# Altium footprint library SRD Generator PCB.PcbLib: 9 footprints
Each footprint in its own frame and in the unit in brackets; x right, y up, seen from the top. Pads: shape width x height; smd on the part's side, far side on the other; paste and mask are expansions set on the pad; w line width, h text height; cw(c..) or ccw(c..) is an arc to the next point about the centre after c.
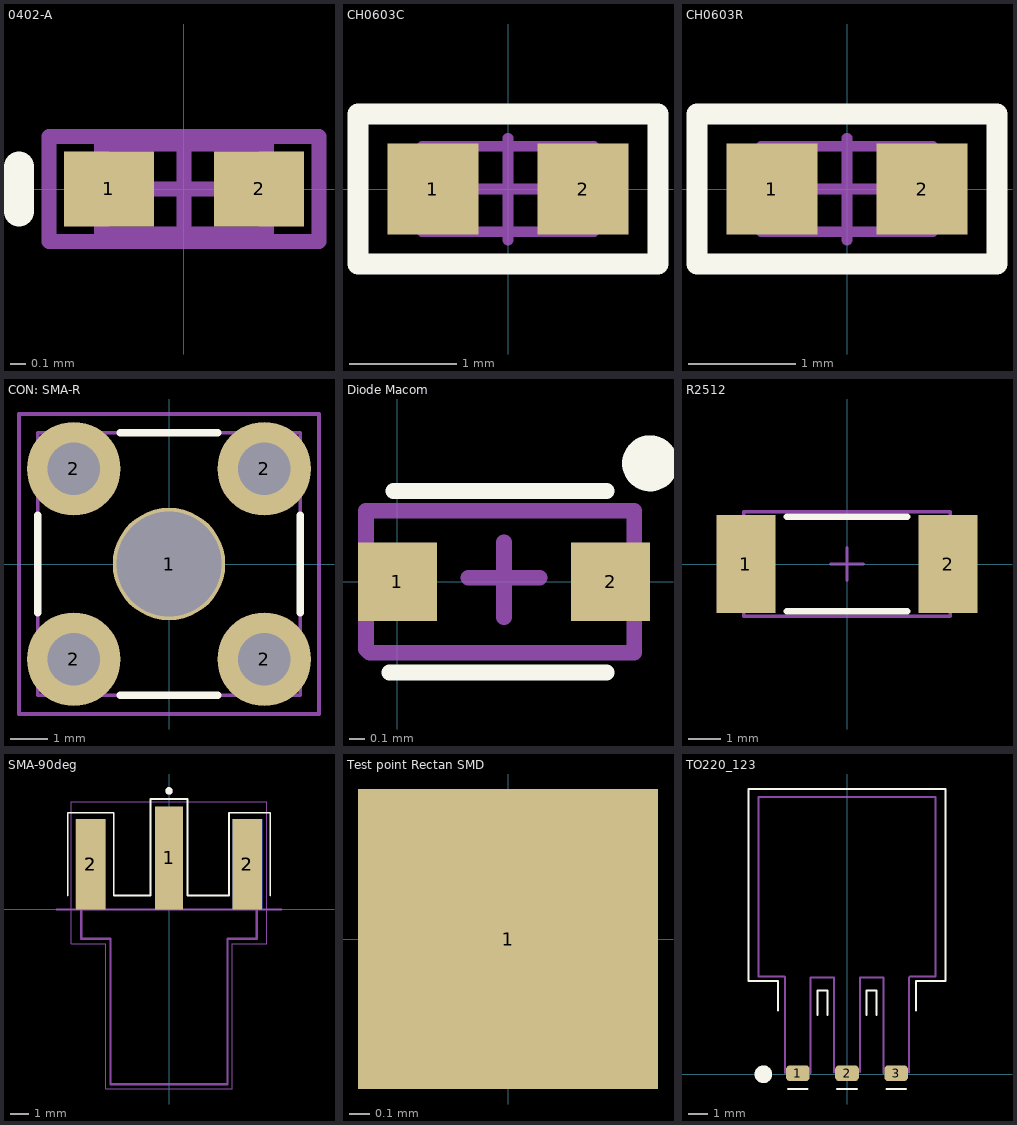
[diagram p0: the footprints below, top view; thin cyan lines are the x and y axes]

## 0402-A [mm] "Chip Inductor, Body 1.0x0.5mm, IPC High Density"
height 0.55
pads (2):
  rect 0.6x0.5 smd: 1(-0.5,0) 2(0.5,0)
Top Overlay:
  lines w0.2: -1.1,-0.15 -1.1,0.15
Mechanical 13:
  lines w0.1: -0.55,-0.3 -0.55,0.3 0.55,0.3 0.55,-0.3 -0.55,-0.3
Mechanical 15:
  lines w0.1: -0.3,0 0.3,0 ; 0,-0.3 0,0.3 ; -0.9,-0.35 -0.9,0.35 0.9,0.35 0.9,-0.35 -0.9,-0.35
3D body: height 0.55, standoff 0, extent -0.55,-0.3 0.55,0.3

## CH0603C [mm] "Chip Capacitor, 2-Leads, Body 1,53x0,85mm, IPC Medium Density"
height 0.45
pads (2):
  rect 0.85x0.85 smd: 1(-0.7,0) 2(0.7,0)
Top Overlay:
  lines w0.2: -1.4,-0.7 -1.4,0.7 1.4,0.7 1.4,-0.7 -1.4,-0.7
Mechanical 1:
  lines w0.1: -0.8,-0.4 -0.8,0.4 0.8,0.4 0.8,-0.4 -0.8,-0.4
Mechanical 15:
  lines w0.1: -0.475,0 0.475,0 ; 0,-0.475 0,0.475 ; -1.4,-0.7 1.4,-0.7 1.4,0.7 -1.4,0.7 -1.4,-0.7
3D body "SW3dPS-0603 SMD Capacitor.STEP": height 0.3, standoff 0, extent -0.8,-0.4 0.8,0.4

## CH0603R [mm]
height 0.45
pads (2):
  rect 0.85x0.85 smd: 1(-0.7,0) 2(0.7,0)
Top Overlay:
  lines w0.2: -1.4,-0.7 -1.4,0.7 1.4,0.7 1.4,-0.7 -1.4,-0.7
Mechanical 1:
  lines w0.1: -0.8,-0.4 -0.8,0.4 0.8,0.4 0.8,-0.4 -0.8,-0.4
Mechanical 15:
  lines w0.1: -0.475,0 0.475,0 ; 0,-0.475 0,0.475 ; -1.4,-0.7 1.4,-0.7 1.4,0.7 -1.4,0.7 -1.4,-0.7
3D body "chip_0603_r.STEP": height 0.44, standoff -0.02, extent -0.8,-0.4 0.8,0.4

## CON: SMA-R [mm]
height 1
pads (5):
  round 3 hole 2.8 paste+0 mask+0.102: 1(0,0)
  round 2.5 hole 1.4: 2(-2.54,-2.54) 2(-2.54,2.54) 2(2.54,-2.54) 2(2.54,2.54)
Top Overlay:
  lines w0.2: -3.5,-1.3 -3.5,1.3 ; -1.3,-3.5 1.3,-3.5 ; -1.3,3.5 1.3,3.5 ; 3.5,-1.3 3.5,1.3
Mechanical 1:
  lines w0.1: -3.5,-3.5 -3.5,3.5 3.5,3.5 3.5,-3.5 -3.5,-3.5
Mechanical 15:
  lines w0.1: -0.5,0 0.5,0 ; 0,-0.5 0,0.5 ; -4,-4 4,-4 4,4 -4,4 -4,-4
3D body "Samtec-SMA-J-P-H-RA-TH1.STEP": height 10.26, standoff -3.84, extent -3.5,-3.5 3.5,11.6

## Diode Macom [mm]
height 22
pads (2):
  rect 0.5x0.5 smd: 1(0,0) 2(1.35,0)
Top Overlay:
  circle w0.254: c1.6,0.75 r0.05
  lines w0.1: -0.05,-0.575 1.325,-0.575 ; -0.025,0.575 1.325,0.575
Mechanical 15:
  lines w0.1: 0.45,0.025 0.9,0.025 ; 0.675,-0.225 0.675,0.25 ; -0.2,-0.425 -0.175,-0.45 1.5,-0.45 1.5,0.45 -0.2,0.45 -0.2,-0.425
3D body "SC79.step": height 0.62, standoff 0, extent -0.188,-0.45 1.513,0.45

## R2512 [mm] "Resistor, 2-Leads, Body 6,40x3,20mm, IPC Medium Density"
height 0.7
pads (2):
  rect 1.8x3 smd mask+0.05: 1(-3.1,0) 2(3.1,0)
Top Overlay:
  lines w0.2: -1.85,-1.45 1.85,-1.45 ; -1.85,1.45 1.85,1.45
Top Assembly:
  lines w0.1: -3.17,-1.6 -3.17,1.6 3.17,1.6 3.17,-1.6 -3.17,-1.6
Mechanical 15:
  lines w0.1: -0.5,0 0.5,0 ; 0,-0.5 0,0.5
3D body "R2512 (6432).step": height 0.57, standoff 0, extent -3.175,-1.602 3.175,1.6

## SMA-90deg [mm]
pads (5):
  rect 1.5x5.6 smd: 1(0,2.8)
  rect 1.6x4.9 smd: 2(-4.26,2.45) 2(4.26,2.45)
  rect 1.6x4.9 smd far side: 2(-4.26,2.45) 2(4.26,2.45)
Top Overlay:
  circle w0.2: c0,6.44 r0.1
  lines w0.1: -5.5,0.75 -5.5,5.25 -3,5.25 -3,0.75 -1,0.75 -1,6 1,6 1,0.75 3.25,0.75 3.25,5.25 5.5,5.25 5.5,0.75
Mechanical 13:
  circle w0.2: c0,6.44 r0.1
  lines w0.05: -5.31,-1.85 -5.31,5.85 5.31,5.85 5.31,-1.85 3.425,-1.85 3.425,-9.75 -3.425,-9.75 -3.425,-1.85 -5.31,-1.85
  lines w0.127: -6.09,0 -4.76,0 ; 6.09,0 4.76,0 ; -4.76,0 -4.76,-1.6 -3.175,-1.6 -3.175,-9.5 3.175,-9.5 3.175,-1.6 4.76,-1.6 4.76,0 ; -4.76,0 -3.76,0 ; -4.76,0 -4.76,4.7 -3.76,4.7 -3.76,0 ; -3.76,0 -0.39,0 ; -0.39,0 0.39,0 ; -0.39,0 -0.39,4.7 0.39,4.7 0.39,0 ; 0.39,0 3.76,0 ; 3.76,0 4.76,0 ; 3.76,0 3.76,4.7 4.76,4.7 4.76,0
Mechanical 15:
  lines w0.05: -5.31,-1.85 -5.31,5.85 5.31,5.85 5.31,-1.85 3.425,-1.85 3.425,-9.75 -3.425,-9.75 -3.425,-1.85 -5.31,-1.85
3D body "step_temp.STEP": height 4.35, standoff -3.57, extent -4.76,-9.5 4.76,4.7

## Test point Rectan SMD [mm]
height 2.01
pads (1):
  rect 1.5x1.5 smd: 1(0,0)

## TO220_123 [mm] "Generic TO-220 case, stay variant"
height 22
pads (3):
  rrect50% 1.2x0.8 smd: 1(-2.5,0.05) 2(0,0.05) 3(2.5,0.05)
Top Overlay:
  circle w0.5: c-4.25,0 r0.2
  lines w0.1: -3.5,3.25 -3.5,4.75 -4,4.75 -5,4.75 -5,5 -5,14.5 5,14.5 5,5 5,4.75 4,4.75 3.5,4.75 3.5,3.25 ; -3,-0.75 -2,-0.75 ; -1.5,3 -1.5,4.25 -1,4.25 -1,3 ; -0.5,-0.75 0.5,-0.75 ; 1,3 1,4.25 1.5,4.25 1.5,3 ; 2,-0.75 3,-0.75
Mechanical 1:
  lines w0.1: -4.5,14.075 -4.5,4.975 -3.2,4.975 -3.15,4.925 -3.15,0.075 ; -4.5,14.1 4.5,14.1 4.5,4.975 3.225,4.975 3.15,4.9 3.15,0.1 ; -1.85,0.05 -1.85,4.925 -0.65,4.925 -0.65,0.1 ; 0.65,0.125 0.65,4.925 1.85,4.925 1.85,0.05
3D body "TO220AB_split.step": height 4.7, standoff 0.01, extent -5.613,-0.04 5.6,14.24